# Altium schematic symbol library Altium_Library.SchLib: 1 symbol
Pins are listed as number, name and electrical type; pins without a type are passive.

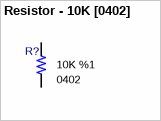
[diagram p0: symbol Resistor - 10K [0402]]

## Resistor - 10K [0402]
designator R?, comment value 10K  Tolerance: %1  Case: 0402  (hidden comment: Thick Film Resistor)
Thick Film Resistors - SMD 1/16 W 10 Kohms 1%; Manufacturer Name 1: Vishay; Manufacturer Part Number 1: CRCW040210K0FKED; Power: 62.5 mW; Height: 0.35 mm; ComponentLink1Description: DataSheet; ComponentLink1URL: https://www.mouser.com.tr/datasheet/2/427/dcrcwe3-1762152.pdf; ComponentLink2Description: Mouser; ComponentLink2URL: https://www.mouser.com.tr/ProductDetail/Vishay-Dale/CRCW040210K0FKED?qs=sGAEpiMZZMu61qfTUdNhG2DpbjADlD3GcalbOv9utCY%3D; Manufacturer Part Number 2: SFR01MZPF1002; Manufacturer Name 2: ROHM Semiconductor; Manufacturer Part Number 3: RC0402FR-0710KL; Manufacturer Name 3: Yageo; Supplier 1: Farnell; Supplier 2: Mouser; Supplier 3: Mouser; Supplier 4: RSComponents; Supplier 5: Future Electronics; Supplier 6: Future Electronics; Supplier 7: Mouser; Supplier 8: Arrow Electronics; Supplier 9: Farnell; Supplier 10: Farnell; Supplier 11: Farnell; Supplier 12: Newark; Supplier 13: Digi-Key; Supplier 14: Digi-Key; Supplier 15: Digi-Key; Supplier Part Number 1: 1469669; Supplier Part Number 2: 71-CRCW0402-10K-E3; Supplier Part Number 3: 755-SFR01MZPF1002; Supplier Part Number 4: 1987643; Supplier Part Number 5: 7468275; Supplier Part Number 6: 3388022; Supplier Part Number 7: 603-RC0402FR-0710KL; Supplier Part Number 8: RC0402FR-0710KL; Supplier Part Number 9: 2421890; Supplier Part Number 10: 2363463; Supplier Part Number 11: 9239359; Supplier Part Number 12: 98K7499; Supplier Part Number 13: 311-10.0KLRCT-ND; Supplier Part Number 14: 311-10.0KLRDKR-ND; Supplier Part Number 15: 311-10.0KLRTR-ND
footprint RESISTOR_0402 (Chip Resistor, IPC High Density)
pins: 1, 2